# Altium footprint library Vowstar_MCU.PcbLib: 49 footprints (part 4 of 4)
Each footprint in its own frame and in the unit in brackets; x right, y up, seen from the top. Pads: shape width x height; smd on the part's side, far side on the other; paste and mask are expansions set on the pad; w line width, h text height; cw(c..) or ccw(c..) is an arc to the next point about the centre after c.
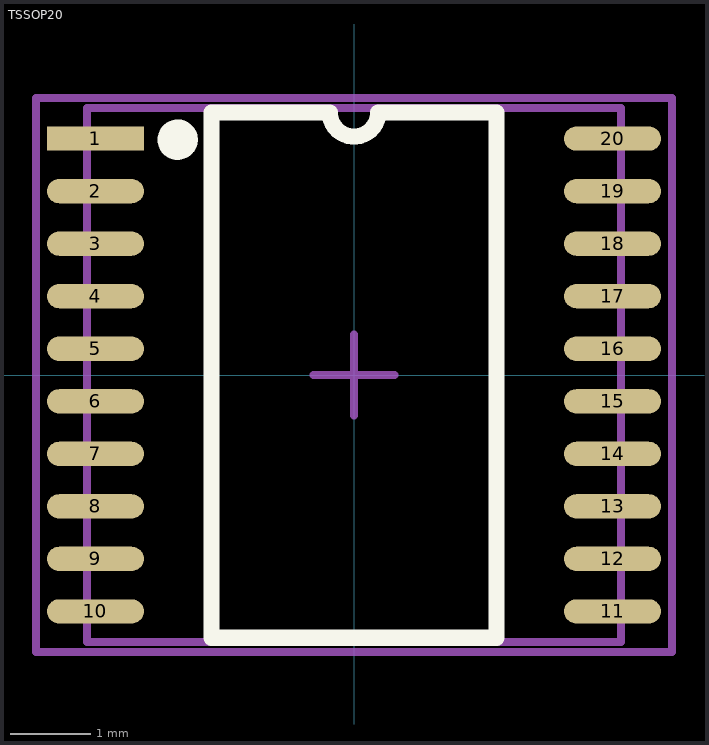
[diagram p3: the footprint, top view; thin cyan lines are the x and y axes]

## TSSOP20 [mm] "SSOP; 20 Leads; Body Width 3.9 mm; Pitch 0.64 mm"
height 1.75
pads (20):
  rect 1.2x0.3 smd: 1(-3.2,2.925)
  oval 1.2x0.3 smd: 2(-3.2,2.275) 3(-3.2,1.625) 4(-3.2,0.975) 5(-3.2,0.325) 6(-3.2,-0.325) 7(-3.2,-0.975) 8(-3.2,-1.625) 9(-3.2,-2.275) 10(-3.2,-2.925) 11(3.2,-2.925) 12(3.2,-2.275) 13(3.2,-1.625) 14(3.2,-0.975) 15(3.2,-0.325) 16(3.2,0.325) 17(3.2,0.975) 18(3.2,1.625) 19(3.2,2.275) 20(3.2,2.925)
Top Overlay:
  circle w0.25: c-2.182,2.912 r0.125
  lines w0.2: -1.765,-3.25 -1.765,3.25 -0.3,3.25 ccw(c0,3.25) 0.3,3.25 1.765,3.25 1.765,-3.25 -1.765,-3.25
Mechanical 13:
  lines w0.1: -3.302,-3.302 3.302,-3.302 3.302,3.302 -3.302,3.302 -3.302,-3.302
Mechanical 15:
  lines w0.1: -0.5,0 0.5,0 ; 0,-0.5 0,0.5 ; -3.937,-3.429 3.937,-3.429 3.937,3.429 -3.937,3.429 -3.937,-3.429
3D body "User Library-TSSOP-20-1.step": height 1.2, standoff 0, extent -3.277,-3.3 3.273,3.3